# EAGLE library part ADXL375BCCZ (library elements)
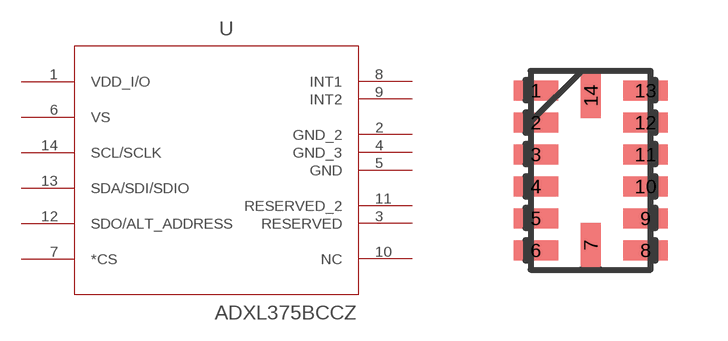
[diagram p1: symbol with the pads of LGA_CC-14-1; footprint LGA_CC-14-1]

Designator prefix U

## ADXL375BCCZ  [LGA_CC-14-1]
1  VDD_I/O  pas
2  GND_2  pas
3  RESERVED  pas
4  GND_3  pas
5  GND  pas
6  VS  pas
7  *CS  pas
8  INT1  pas
9  INT2  pas
10  NC  pas
11  RESERVED_2  pas
12  SDO/ALT_ADDRESS  pas
13  SDA/SDI/SDIO  pas
14  SCL/SCLK  pas

## Footprint LGA_CC-14-1 (pad centres in mm)
smd 1.118 x 0.5: 1 -1.371,2; 2 -1.371,1.2; 3 -1.371,0.4; 4 -1.371,-0.4; 5 -1.371,-1.2; 6 -1.371,-2; 8 1.371,-2; 9 1.371,-1.2; 10 1.371,-0.4; 11 1.371,0.4; 12 1.371,1.2; 13 1.371,2
smd 0.5 x 1.118: 7 0,-1.871; 14 0,1.871